# EAGLE library part IS25LP080D-JNLE-TR (library IS25LP080D-JNLE-TR)
8MB QSPI, 8-PIN SOP 150MIL, RO Source: Datasheet
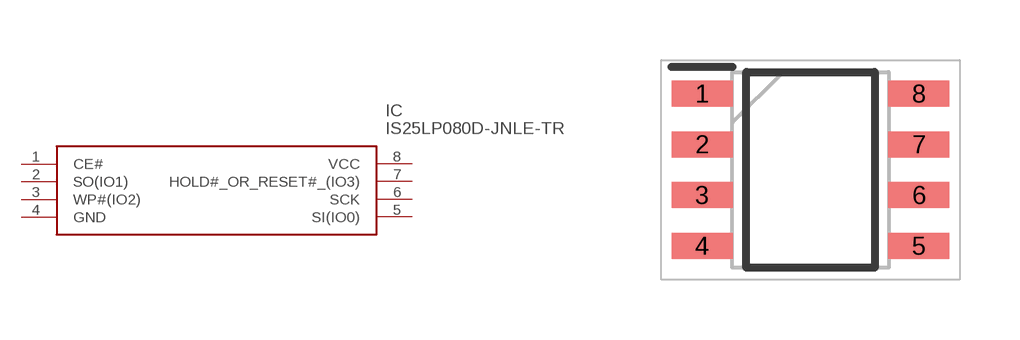
[diagram p0: symbol with the pads of SOIC127P600X175-8N; footprint SOIC127P600X175-8N]

Designator prefix IC

## IS25LP080D-JNLE-TR (Description: 8MB QSPI, 8-PIN SOP 150MIL, RO; Height: 1.75mm; Manufacturer_Name: Integrated Silicon Solution Inc.; Manufacturer_Part_Number: IS25LP080D-JNLE-TR; Mouser_Part_Number: 870-IS25LP080DJNLETR; Mouser_Price-Stock: https://www.mouser.co.uk/ProductDetail/ISSI/IS25LP080D-JNLE-TR?qs=pif5%252B9MYt0VkH9msMJ5aTQ%3D%3D)  [SOIC127P600X175-8N]
1  CE#
2  SO(IO1)
3  WP#(IO2)
4  GND
5  SI(IO0)
6  SCK
7  HOLD#_OR_RESET#_(IO3)
8  VCC

## Footprint SOIC127P600X175-8N (pad centres in mm)
10.2 8-PIN JEDEC 150MIL BROAD SMALL OUTLINE INTEGRATED CIRCUIT (SOIC) PACKAGE (N)
smd 1.525 x 0.65: 1 -2.712,1.905; 2 -2.712,0.635; 3 -2.712,-0.635; 4 -2.712,-1.905; 5 2.712,-1.905; 6 2.712,-0.635; 7 2.712,0.635; 8 2.712,1.905